# Altium footprint library BGA_Sq_50P.PcbLib: 21 footprints (part 2 of 2)
Each footprint in its own frame and in the unit in brackets; x right, y up, seen from the top. Pads: shape width x height; smd on the part's side, far side on the other; paste and mask are expansions set on the pad; w line width, h text height; cw(c..) or ccw(c..) is an arc to the next point about the centre after c.
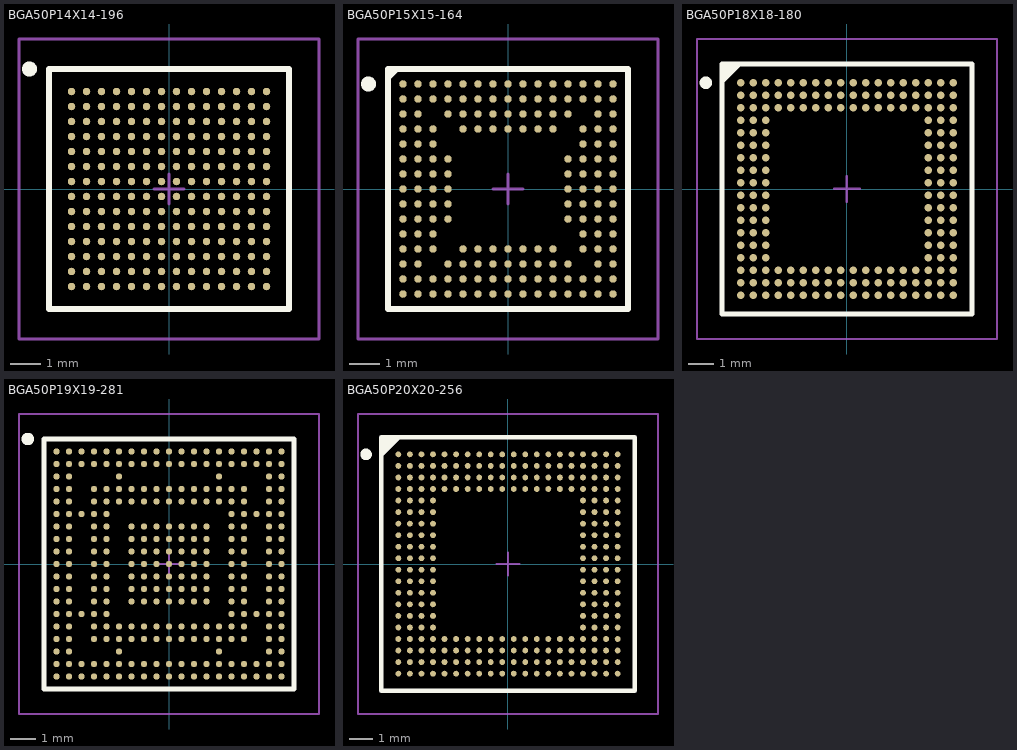
[diagram p1: the footprints below, top view; thin cyan lines are the x and y axes]

## BGA50P14X14-196 [mm] "BGA, 196-Leads, Body 8x8mm, Pitch 0.5mm"
height 1.2
pads (196):
  round 0.25 smd: A1(-3.25,3.25) A2(-2.75,3.25) A3(-2.25,3.25) A4(-1.75,3.25) A5(-1.25,3.25) A6(-0.75,3.25) A7(-0.25,3.25) A8(0.25,3.25) A9(0.75,3.25) A10(1.25,3.25) A11(1.75,3.25) A12(2.25,3.25) A13(2.75,3.25) A14(3.25,3.25) B1(-3.25,2.75) B2(-2.75,2.75) B3(-2.25,2.75) B4(-1.75,2.75) B5(-1.25,2.75) B6(-0.75,2.75) B7(-0.25,2.75) B8(0.25,2.75) B9(0.75,2.75) B10(1.25,2.75) B11(1.75,2.75) B12(2.25,2.75) B13(2.75,2.75) B14(3.25,2.75) C1(-3.25,2.25) C2(-2.75,2.25) C3(-2.25,2.25) C4(-1.75,2.25) C5(-1.25,2.25) C6(-0.75,2.25) C7(-0.25,2.25) C8(0.25,2.25) C9(0.75,2.25) C10(1.25,2.25) C11(1.75,2.25) C12(2.25,2.25) C13(2.75,2.25) C14(3.25,2.25) D1(-3.25,1.75) D2(-2.75,1.75) D3(-2.25,1.75) D4(-1.75,1.75) D5(-1.25,1.75) D6(-0.75,1.75) D7(-0.25,1.75) D8(0.25,1.75) D9(0.75,1.75) D10(1.25,1.75) D11(1.75,1.75) D12(2.25,1.75) D13(2.75,1.75) D14(3.25,1.75) E1(-3.25,1.25) E2(-2.75,1.25) E3(-2.25,1.25) E4(-1.75,1.25) E5(-1.25,1.25) E6(-0.75,1.25) E7(-0.25,1.25) E8(0.25,1.25) E9(0.75,1.25) E10(1.25,1.25) E11(1.75,1.25) E12(2.25,1.25) E13(2.75,1.25) E14(3.25,1.25) F1(-3.25,0.75) F2(-2.75,0.75) F3(-2.25,0.75) F4(-1.75,0.75) F5(-1.25,0.75) F6(-0.75,0.75) F7(-0.25,0.75) F8(0.25,0.75) F9(0.75,0.75) F10(1.25,0.75) F11(1.75,0.75) F12(2.25,0.75) F13(2.75,0.75) F14(3.25,0.75) G1(-3.25,0.25) G2(-2.75,0.25) G3(-2.25,0.25) G4(-1.75,0.25) G5(-1.25,0.25) G6(-0.75,0.25) G7(-0.25,0.25) G8(0.25,0.25) G9(0.75,0.25) G10(1.25,0.25) G11(1.75,0.25) G12(2.25,0.25) G13(2.75,0.25) G14(3.25,0.25) H1(-3.25,-0.25) H2(-2.75,-0.25) H3(-2.25,-0.25) H4(-1.75,-0.25) H5(-1.25,-0.25) H6(-0.75,-0.25) H7(-0.25,-0.25) H8(0.25,-0.25) H9(0.75,-0.25) H10(1.25,-0.25) H11(1.75,-0.25) H12(2.25,-0.25) H13(2.75,-0.25) H14(3.25,-0.25) J1(-3.25,-0.75) J2(-2.75,-0.75) J3(-2.25,-0.75) J4(-1.75,-0.75) J5(-1.25,-0.75) J6(-0.75,-0.75) J7(-0.25,-0.75) J8(0.25,-0.75) J9(0.75,-0.75) J10(1.25,-0.75) J11(1.75,-0.75) J12(2.25,-0.75) J13(2.75,-0.75) J14(3.25,-0.75) K1(-3.25,-1.25) K2(-2.75,-1.25) K3(-2.25,-1.25) K4(-1.75,-1.25) K5(-1.25,-1.25) K6(-0.75,-1.25) K7(-0.25,-1.25) K8(0.25,-1.25) K9(0.75,-1.25) K10(1.25,-1.25) K11(1.75,-1.25) K12(2.25,-1.25) K13(2.75,-1.25) K14(3.25,-1.25) L1(-3.25,-1.75) L2(-2.75,-1.75) L3(-2.25,-1.75) L4(-1.75,-1.75) L5(-1.25,-1.75) L6(-0.75,-1.75) L7(-0.25,-1.75) L8(0.25,-1.75) L9(0.75,-1.75) L10(1.25,-1.75) L11(1.75,-1.75) L12(2.25,-1.75) L13(2.75,-1.75) L14(3.25,-1.75) M1(-3.25,-2.25) M2(-2.75,-2.25) M3(-2.25,-2.25) M4(-1.75,-2.25) M5(-1.25,-2.25) M6(-0.75,-2.25) M7(-0.25,-2.25) M8(0.25,-2.25) M9(0.75,-2.25) M10(1.25,-2.25) M11(1.75,-2.25) M12(2.25,-2.25) M13(2.75,-2.25) M14(3.25,-2.25) N1(-3.25,-2.75) N2(-2.75,-2.75) N3(-2.25,-2.75) N4(-1.75,-2.75) N5(-1.25,-2.75) N6(-0.75,-2.75) N7(-0.25,-2.75) N8(0.25,-2.75) N9(0.75,-2.75) N10(1.25,-2.75) N11(1.75,-2.75) N12(2.25,-2.75) N13(2.75,-2.75) N14(3.25,-2.75) P1(-3.25,-3.25) P2(-2.75,-3.25) P3(-2.25,-3.25) P4(-1.75,-3.25) P5(-1.25,-3.25) P6(-0.75,-3.25) P7(-0.25,-3.25) P8(0.25,-3.25) P9(0.75,-3.25) P10(1.25,-3.25) P11(1.75,-3.25) P12(2.25,-3.25) P13(2.75,-3.25) P14(3.25,-3.25)
Top Overlay:
  circle w0.25: c-4.65,4 r0.125
  lines w0.2: -4,-4 4,-4 4,4 -4,4 -4,-4
Mechanical 13:
  lines w0.1: -4,-4 4,-4 4,4 -4,4 -4,-4
Mechanical 15:
  lines w0.1: -0.5,0 0.5,0 ; 0,-0.5 0,0.5 ; -5,-5 5,-5 5,5 -5,5 -5,-5
3D body: height 1.2, standoff 0.15, extent -4,-4 4,4

## BGA50P15X15-164 [mm] "BGA, 164-Leads, Body 8x8mm, Pitch 0.50mm"
height 1.2
pads (164):
  round 0.25 smd: A1(-3.5,3.5) A2(-3,3.5) A3(-2.5,3.5) A4(-2,3.5) A5(-1.5,3.5) A6(-1,3.5) A7(-0.5,3.5) A8(0,3.5) A9(0.5,3.5) A10(1,3.5) A11(1.5,3.5) A12(2,3.5) A13(2.5,3.5) A14(3,3.5) A15(3.5,3.5) B1(-3.5,3) B2(-3,3) B3(-2.5,3) B4(-2,3) B5(-1.5,3) B6(-1,3) B7(-0.5,3) B8(0,3) B9(0.5,3) B10(1,3) B11(1.5,3) B12(2,3) B13(2.5,3) B14(3,3) B15(3.5,3) C1(-3.5,2.5) C2(-3,2.5) C4(-2,2.5) C5(-1.5,2.5) C6(-1,2.5) C7(-0.5,2.5) C8(0,2.5) C9(0.5,2.5) C10(1,2.5) C11(1.5,2.5) C12(2,2.5) C14(3,2.5) C15(3.5,2.5) D1(-3.5,2) D2(-3,2) D3(-2.5,2) D5(-1.5,2) D6(-1,2) D7(-0.5,2) D8(0,2) D9(0.5,2) D10(1,2) D11(1.5,2) D13(2.5,2) D14(3,2) D15(3.5,2) E1(-3.5,1.5) E2(-3,1.5) E3(-2.5,1.5) E13(2.5,1.5) E14(3,1.5) E15(3.5,1.5) F1(-3.5,1) F2(-3,1) F3(-2.5,1) F4(-2,1) F12(2,1) F13(2.5,1) F14(3,1) F15(3.5,1) G1(-3.5,0.5) G2(-3,0.5) G3(-2.5,0.5) G4(-2,0.5) G12(2,0.5) G13(2.5,0.5) G14(3,0.5) G15(3.5,0.5) H1(-3.5,0) H2(-3,0) H3(-2.5,0) H4(-2,0) H12(2,0) H13(2.5,0) H14(3,0) H15(3.5,0) J1(-3.5,-0.5) J2(-3,-0.5) J3(-2.5,-0.5) J4(-2,-0.5) J12(2,-0.5) J13(2.5,-0.5) J14(3,-0.5) J15(3.5,-0.5) K1(-3.5,-1) K2(-3,-1) K3(-2.5,-1) K4(-2,-1) K12(2,-1) K13(2.5,-1) K14(3,-1) K15(3.5,-1) L1(-3.5,-1.5) L2(-3,-1.5) L3(-2.5,-1.5) L13(2.5,-1.5) L14(3,-1.5) L15(3.5,-1.5) M1(-3.5,-2) M2(-3,-2) M3(-2.5,-2) M5(-1.5,-2) M6(-1,-2) M7(-0.5,-2) M8(0,-2) M9(0.5,-2) M10(1,-2) M11(1.5,-2) M13(2.5,-2) M14(3,-2) M15(3.5,-2) N1(-3.5,-2.5) N2(-3,-2.5) N4(-2,-2.5) N5(-1.5,-2.5) N6(-1,-2.5) N7(-0.5,-2.5) N8(0,-2.5) N9(0.5,-2.5) N10(1,-2.5) N11(1.5,-2.5) N12(2,-2.5) N14(3,-2.5) N15(3.5,-2.5) P1(-3.5,-3) P2(-3,-3) P3(-2.5,-3) P4(-2,-3) P5(-1.5,-3) P6(-1,-3) P7(-0.5,-3) P8(0,-3) P9(0.5,-3) P10(1,-3) P11(1.5,-3) P12(2,-3) P13(2.5,-3) P14(3,-3) P15(3.5,-3) R1(-3.5,-3.5) R2(-3,-3.5) R3(-2.5,-3.5) R4(-2,-3.5) R5(-1.5,-3.5) R6(-1,-3.5) R7(-0.5,-3.5) R8(0,-3.5) R9(0.5,-3.5) R10(1,-3.5) R11(1.5,-3.5) R12(2,-3.5) R13(2.5,-3.5) R14(3,-3.5) R15(3.5,-3.5)
Top Overlay:
  circle w0.25: c-4.65,3.5 r0.125
  region: -3.707,4 -4,3.707 -4,4
  lines w0.2: -4,3.707 -3.707,4 ; -4,-4 -4,4 4,4 4,-4 -4,-4
Mechanical 13:
  lines w0.1: -4,-4 -4,4 4,4 4,-4 -4,-4
Mechanical 15:
  lines w0.1: -0.5,0 0.5,0 ; 0,-0.5 0,0.5 ; -5,-5 -5,5 5,5 5,-5 -5,-5
3D body: height 1.2, standoff 0.15, extent -4,-4 4,4

## BGA50P18X18-180 [mm] "BGA, 180-Leads, Body 10x10mm, Pitch 0.5mm"
height 1.11
pads (180):
  round 0.3 smd: A1(-4.25,4.25) A2(-3.75,4.25) A3(-3.25,4.25) A4(-2.75,4.25) A5(-2.25,4.25) A6(-1.75,4.25) A7(-1.25,4.25) A8(-0.75,4.25) A9(-0.25,4.25) A10(0.25,4.25) A11(0.75,4.25) A12(1.25,4.25) A13(1.75,4.25) A14(2.25,4.25) A15(2.75,4.25) A16(3.25,4.25) A17(3.75,4.25) A18(4.25,4.25) B1(-4.25,3.75) B2(-3.75,3.75) B3(-3.25,3.75) B4(-2.75,3.75) B5(-2.25,3.75) B6(-1.75,3.75) B7(-1.25,3.75) B8(-0.75,3.75) B9(-0.25,3.75) B10(0.25,3.75) B11(0.75,3.75) B12(1.25,3.75) B13(1.75,3.75) B14(2.25,3.75) B15(2.75,3.75) B16(3.25,3.75) B17(3.75,3.75) B18(4.25,3.75) C1(-4.25,3.25) C2(-3.75,3.25) C3(-3.25,3.25) C4(-2.75,3.25) C5(-2.25,3.25) C6(-1.75,3.25) C7(-1.25,3.25) C8(-0.75,3.25) C9(-0.25,3.25) C10(0.25,3.25) C11(0.75,3.25) C12(1.25,3.25) C13(1.75,3.25) C14(2.25,3.25) C15(2.75,3.25) C16(3.25,3.25) C17(3.75,3.25) C18(4.25,3.25) D1(-4.25,2.75) D2(-3.75,2.75) D3(-3.25,2.75) D16(3.25,2.75) D17(3.75,2.75) D18(4.25,2.75) E1(-4.25,2.25) E2(-3.75,2.25) E3(-3.25,2.25) E16(3.25,2.25) E17(3.75,2.25) E18(4.25,2.25) F1(-4.25,1.75) F2(-3.75,1.75) F3(-3.25,1.75) F16(3.25,1.75) F17(3.75,1.75) F18(4.25,1.75) G1(-4.25,1.25) G2(-3.75,1.25) G3(-3.25,1.25) G16(3.25,1.25) G17(3.75,1.25) G18(4.25,1.25) H1(-4.25,0.75) H2(-3.75,0.75) H3(-3.25,0.75) H16(3.25,0.75) H17(3.75,0.75) H18(4.25,0.75) J1(-4.25,0.25) J2(-3.75,0.25) J3(-3.25,0.25) J16(3.25,0.25) J17(3.75,0.25) J18(4.25,0.25) K1(-4.25,-0.25) K2(-3.75,-0.25) K3(-3.25,-0.25) K16(3.25,-0.25) K17(3.75,-0.25) K18(4.25,-0.25) L1(-4.25,-0.75) L2(-3.75,-0.75) L3(-3.25,-0.75) L16(3.25,-0.75) L17(3.75,-0.75) L18(4.25,-0.75) M1(-4.25,-1.25) M2(-3.75,-1.25) M3(-3.25,-1.25) M16(3.25,-1.25) M17(3.75,-1.25) M18(4.25,-1.25) N1(-4.25,-1.75) N2(-3.75,-1.75) N3(-3.25,-1.75) N16(3.25,-1.75) N17(3.75,-1.75) N18(4.25,-1.75) P1(-4.25,-2.25) P2(-3.75,-2.25) P3(-3.25,-2.25) P16(3.25,-2.25) P17(3.75,-2.25) P18(4.25,-2.25) R1(-4.25,-2.75) R2(-3.75,-2.75) R3(-3.25,-2.75) R16(3.25,-2.75) R17(3.75,-2.75) R18(4.25,-2.75) T1(-4.25,-3.25) T2(-3.75,-3.25) T3(-3.25,-3.25) T4(-2.75,-3.25) T5(-2.25,-3.25) T6(-1.75,-3.25) T7(-1.25,-3.25) T8(-0.75,-3.25) T9(-0.25,-3.25) T10(0.25,-3.25) T11(0.75,-3.25) T12(1.25,-3.25) T13(1.75,-3.25) T14(2.25,-3.25) T15(2.75,-3.25) T16(3.25,-3.25) T17(3.75,-3.25) T18(4.25,-3.25) U1(-4.25,-3.75) U2(-3.75,-3.75) U3(-3.25,-3.75) U4(-2.75,-3.75) U5(-2.25,-3.75) U6(-1.75,-3.75) U7(-1.25,-3.75) U8(-0.75,-3.75) U9(-0.25,-3.75) U10(0.25,-3.75) U11(0.75,-3.75) U12(1.25,-3.75) U13(1.75,-3.75) U14(2.25,-3.75) U15(2.75,-3.75) U16(3.25,-3.75) U17(3.75,-3.75) U18(4.25,-3.75) V1(-4.25,-4.25) V2(-3.75,-4.25) V3(-3.25,-4.25) V4(-2.75,-4.25) V5(-2.25,-4.25) V6(-1.75,-4.25) V7(-1.25,-4.25) V8(-0.75,-4.25) V9(-0.25,-4.25) V10(0.25,-4.25) V11(0.75,-4.25) V12(1.25,-4.25) V13(1.75,-4.25) V14(2.25,-4.25) V15(2.75,-4.25) V16(3.25,-4.25) V17(3.75,-4.25) V18(4.25,-4.25)
Top Overlay:
  circle w0.25: c-5.65,4.25 r0.125
  region: -4.306,5 -5,4.306 -5,5
  lines w0.2: -5,4.306 -4.306,5 ; -5,-5 -5,5 5,5 5,-5 -5,-5
Mechanical 13:
  lines w0.1: -5,-5 -5,5 5,5 5,-5 -5,-5
Mechanical 15:
  lines w0.1: -0.5,0 0.5,0 ; 0,-0.5 0,0.5 ; -6,-6 -6,6 6,6 6,-6 -6,-6
3D body: height 1.11, standoff 0.19, extent -5,-5 5,5

## BGA50P19X19-281 [mm] "BGA, 281-Leads, Body 10x10mm, Pitch 0.5mm"
height 1.05
pads (281):
  round 0.25 smd: A1(-4.5,4.5) A2(-4,4.5) A3(-3.5,4.5) A4(-3,4.5) A5(-2.5,4.5) A6(-2,4.5) A7(-1.5,4.5) A8(-1,4.5) A9(-0.5,4.5) A10(0,4.5) A11(0.5,4.5) A12(1,4.5) A13(1.5,4.5) A14(2,4.5) A15(2.5,4.5) A16(3,4.5) A17(3.5,4.5) A18(4,4.5) A19(4.5,4.5) B1(-4.5,4) B2(-4,4) B3(-3.5,4) B4(-3,4) B5(-2.5,4) B6(-2,4) B7(-1.5,4) B8(-1,4) B9(-0.5,4) B10(0,4) B11(0.5,4) B12(1,4) B13(1.5,4) B14(2,4) B15(2.5,4) B16(3,4) B17(3.5,4) B18(4,4) B19(4.5,4) C1(-4.5,3.5) C2(-4,3.5) C6(-2,3.5) C14(2,3.5) C18(4,3.5) C19(4.5,3.5) D1(-4.5,3) D2(-4,3) D4(-3,3) D5(-2.5,3) D6(-2,3) D7(-1.5,3) D8(-1,3) D9(-0.5,3) D10(0,3) D11(0.5,3) D12(1,3) D13(1.5,3) D14(2,3) D15(2.5,3) D16(3,3) D18(4,3) D19(4.5,3) E1(-4.5,2.5) E2(-4,2.5) E4(-3,2.5) E5(-2.5,2.5) E6(-2,2.5) E7(-1.5,2.5) E8(-1,2.5) E9(-0.5,2.5) E10(0,2.5) E11(0.5,2.5) E12(1,2.5) E13(1.5,2.5) E14(2,2.5) E15(2.5,2.5) E16(3,2.5) E18(4,2.5) E19(4.5,2.5) F1(-4.5,2) F2(-4,2) F3(-3.5,2) F4(-3,2) F5(-2.5,2) F15(2.5,2) F16(3,2) F17(3.5,2) F18(4,2) F19(4.5,2) G1(-4.5,1.5) G2(-4,1.5) G4(-3,1.5) G5(-2.5,1.5) G7(-1.5,1.5) G8(-1,1.5) G9(-0.5,1.5) G10(0,1.5) G11(0.5,1.5) G12(1,1.5) G13(1.5,1.5) G15(2.5,1.5) G16(3,1.5) G18(4,1.5) G19(4.5,1.5) H1(-4.5,1) H2(-4,1) H4(-3,1) H5(-2.5,1) H7(-1.5,1) H8(-1,1) H9(-0.5,1) H10(0,1) H11(0.5,1) H12(1,1) H13(1.5,1) H15(2.5,1) H16(3,1) H18(4,1) H19(4.5,1) J1(-4.5,0.5) J2(-4,0.5) J4(-3,0.5) J5(-2.5,0.5) J7(-1.5,0.5) J8(-1,0.5) J9(-0.5,0.5) J10(0,0.5) J11(0.5,0.5) J12(1,0.5) J13(1.5,0.5) J15(2.5,0.5) J16(3,0.5) J18(4,0.5) J19(4.5,0.5) K1(-4.5,0) K2(-4,0) K4(-3,0) K5(-2.5,0) K7(-1.5,0) K8(-1,0) K9(-0.5,0) K10(0,0) K11(0.5,0) K12(1,0) K13(1.5,0) K15(2.5,0) K16(3,0) K18(4,0) K19(4.5,0) L1(-4.5,-0.5) L2(-4,-0.5) L4(-3,-0.5) L5(-2.5,-0.5) L7(-1.5,-0.5) L8(-1,-0.5) L9(-0.5,-0.5) L10(0,-0.5) L11(0.5,-0.5) L12(1,-0.5) L13(1.5,-0.5) L15(2.5,-0.5) L16(3,-0.5) L18(4,-0.5) L19(4.5,-0.5) M1(-4.5,-1) M2(-4,-1) M4(-3,-1) M5(-2.5,-1) M7(-1.5,-1) M8(-1,-1) M9(-0.5,-1) M10(0,-1) M11(0.5,-1) M12(1,-1) M13(1.5,-1) M15(2.5,-1) M16(3,-1) M18(4,-1) M19(4.5,-1) N1(-4.5,-1.5) N2(-4,-1.5) N4(-3,-1.5) N5(-2.5,-1.5) N7(-1.5,-1.5) N8(-1,-1.5) N9(-0.5,-1.5) N10(0,-1.5) N11(0.5,-1.5) N12(1,-1.5) N13(1.5,-1.5) N15(2.5,-1.5) N16(3,-1.5) N18(4,-1.5) N19(4.5,-1.5) P1(-4.5,-2) P2(-4,-2) P3(-3.5,-2) P4(-3,-2) P5(-2.5,-2) P15(2.5,-2) P16(3,-2) P17(3.5,-2) P18(4,-2) P19(4.5,-2) R1(-4.5,-2.5) R2(-4,-2.5) R4(-3,-2.5) R5(-2.5,-2.5) R6(-2,-2.5) R7(-1.5,-2.5) R8(-1,-2.5) R9(-0.5,-2.5) R10(0,-2.5) R11(0.5,-2.5) R12(1,-2.5) R13(1.5,-2.5) R14(2,-2.5) R15(2.5,-2.5) R16(3,-2.5) R18(4,-2.5) R19(4.5,-2.5) T1(-4.5,-3) T2(-4,-3) T4(-3,-3) T5(-2.5,-3) T6(-2,-3) T7(-1.5,-3) T8(-1,-3) T9(-0.5,-3) T10(0,-3) T11(0.5,-3) T12(1,-3) T13(1.5,-3) T14(2,-3) T15(2.5,-3) T16(3,-3) T18(4,-3) T19(4.5,-3) U1(-4.5,-3.5) U2(-4,-3.5) U6(-2,-3.5) U14(2,-3.5) U18(4,-3.5) U19(4.5,-3.5) V1(-4.5,-4) V2(-4,-4) V3(-3.5,-4) V4(-3,-4) V5(-2.5,-4) V6(-2,-4) V7(-1.5,-4) V8(-1,-4) V9(-0.5,-4) V10(0,-4) V11(0.5,-4) V12(1,-4) V13(1.5,-4) V14(2,-4) V15(2.5,-4) V16(3,-4) V17(3.5,-4) V18(4,-4) V19(4.5,-4) W1(-4.5,-4.5) W2(-4,-4.5) W3(-3.5,-4.5) W4(-3,-4.5) W5(-2.5,-4.5) W6(-2,-4.5) W7(-1.5,-4.5) W8(-1,-4.5) W9(-0.5,-4.5) W10(0,-4.5) W11(0.5,-4.5) W12(1,-4.5) W13(1.5,-4.5) W14(2,-4.5) W15(2.5,-4.5) W16(3,-4.5) W17(3.5,-4.5) W18(4,-4.5) W19(4.5,-4.5)
Top Overlay:
  circle w0.25: c-5.65,5 r0.125
  lines w0.2: -5,-5 5,-5 5,5 -5,5 -5,-5
Mechanical 13:
  lines w0.1: -5,-5 5,-5 5,5 -5,5 -5,-5
Mechanical 15:
  lines w0.1: -0.5,0 0.5,0 ; 0,-0.5 0,0.5 ; -6,-6 6,-6 6,6 -6,6 -6,-6
3D body: height 1.05, standoff 0.18, extent -5,-5 5,5

## BGA50P20X20-256 [mm] "BGA, 256-Leads, Body 11x11mm, Pitch 0.5mm"
height 1.2
pads (256):
  round 0.25 smd: A1(-4.75,4.75) A2(-4.25,4.75) A3(-3.75,4.75) A4(-3.25,4.75) A5(-2.75,4.75) A6(-2.25,4.75) A7(-1.75,4.75) A8(-1.25,4.75) A9(-0.75,4.75) A10(-0.25,4.75) A11(0.25,4.75) A12(0.75,4.75) A13(1.25,4.75) A14(1.75,4.75) A15(2.25,4.75) A16(2.75,4.75) A17(3.25,4.75) A18(3.75,4.75) A19(4.25,4.75) A20(4.75,4.75) B1(-4.75,4.25) B2(-4.25,4.25) B3(-3.75,4.25) B4(-3.25,4.25) B5(-2.75,4.25) B6(-2.25,4.25) B7(-1.75,4.25) B8(-1.25,4.25) B9(-0.75,4.25) B10(-0.25,4.25) B11(0.25,4.25) B12(0.75,4.25) B13(1.25,4.25) B14(1.75,4.25) B15(2.25,4.25) B16(2.75,4.25) B17(3.25,4.25) B18(3.75,4.25) B19(4.25,4.25) B20(4.75,4.25) C1(-4.75,3.75) C2(-4.25,3.75) C3(-3.75,3.75) C4(-3.25,3.75) C5(-2.75,3.75) C6(-2.25,3.75) C7(-1.75,3.75) C8(-1.25,3.75) C9(-0.75,3.75) C10(-0.25,3.75) C11(0.25,3.75) C12(0.75,3.75) C13(1.25,3.75) C14(1.75,3.75) C15(2.25,3.75) C16(2.75,3.75) C17(3.25,3.75) C18(3.75,3.75) C19(4.25,3.75) C20(4.75,3.75) D1(-4.75,3.25) D2(-4.25,3.25) D3(-3.75,3.25) D4(-3.25,3.25) D5(-2.75,3.25) D6(-2.25,3.25) D7(-1.75,3.25) D8(-1.25,3.25) D9(-0.75,3.25) D10(-0.25,3.25) D11(0.25,3.25) D12(0.75,3.25) D13(1.25,3.25) D14(1.75,3.25) D15(2.25,3.25) D16(2.75,3.25) D17(3.25,3.25) D18(3.75,3.25) D19(4.25,3.25) D20(4.75,3.25) E1(-4.75,2.75) E2(-4.25,2.75) E3(-3.75,2.75) E4(-3.25,2.75) E17(3.25,2.75) E18(3.75,2.75) E19(4.25,2.75) E20(4.75,2.75) F1(-4.75,2.25) F2(-4.25,2.25) F3(-3.75,2.25) F4(-3.25,2.25) F17(3.25,2.25) F18(3.75,2.25) F19(4.25,2.25) F20(4.75,2.25) G1(-4.75,1.75) G2(-4.25,1.75) G3(-3.75,1.75) G4(-3.25,1.75) G17(3.25,1.75) G18(3.75,1.75) G19(4.25,1.75) G20(4.75,1.75) H1(-4.75,1.25) H2(-4.25,1.25) H3(-3.75,1.25) H4(-3.25,1.25) H17(3.25,1.25) H18(3.75,1.25) H19(4.25,1.25) H20(4.75,1.25) J1(-4.75,0.75) J2(-4.25,0.75) J3(-3.75,0.75) J4(-3.25,0.75) J17(3.25,0.75) J18(3.75,0.75) J19(4.25,0.75) J20(4.75,0.75) K1(-4.75,0.25) K2(-4.25,0.25) K3(-3.75,0.25) K4(-3.25,0.25) K17(3.25,0.25) K18(3.75,0.25) K19(4.25,0.25) K20(4.75,0.25) L1(-4.75,-0.25) L2(-4.25,-0.25) L3(-3.75,-0.25) L4(-3.25,-0.25) L17(3.25,-0.25) L18(3.75,-0.25) L19(4.25,-0.25) L20(4.75,-0.25) M1(-4.75,-0.75) M2(-4.25,-0.75) M3(-3.75,-0.75) M4(-3.25,-0.75) M17(3.25,-0.75) M18(3.75,-0.75) M19(4.25,-0.75) M20(4.75,-0.75) N1(-4.75,-1.25) N2(-4.25,-1.25) N3(-3.75,-1.25) N4(-3.25,-1.25) N17(3.25,-1.25) N18(3.75,-1.25) N19(4.25,-1.25) N20(4.75,-1.25) P1(-4.75,-1.75) P2(-4.25,-1.75) P3(-3.75,-1.75) P4(-3.25,-1.75) P17(3.25,-1.75) P18(3.75,-1.75) P19(4.25,-1.75) P20(4.75,-1.75) R1(-4.75,-2.25) R2(-4.25,-2.25) R3(-3.75,-2.25) R4(-3.25,-2.25) R17(3.25,-2.25) R18(3.75,-2.25) R19(4.25,-2.25) R20(4.75,-2.25) T1(-4.75,-2.75) T2(-4.25,-2.75) T3(-3.75,-2.75) T4(-3.25,-2.75) T17(3.25,-2.75) T18(3.75,-2.75) T19(4.25,-2.75) T20(4.75,-2.75) U1(-4.75,-3.25) U2(-4.25,-3.25) U3(-3.75,-3.25) U4(-3.25,-3.25) U5(-2.75,-3.25) U6(-2.25,-3.25) U7(-1.75,-3.25) U8(-1.25,-3.25) U9(-0.75,-3.25) U10(-0.25,-3.25) U11(0.25,-3.25) U12(0.75,-3.25) U13(1.25,-3.25) U14(1.75,-3.25) U15(2.25,-3.25) U16(2.75,-3.25) U17(3.25,-3.25) U18(3.75,-3.25) U19(4.25,-3.25) U20(4.75,-3.25) V1(-4.75,-3.75) V2(-4.25,-3.75) V3(-3.75,-3.75) V4(-3.25,-3.75) V5(-2.75,-3.75) V6(-2.25,-3.75) V7(-1.75,-3.75) V8(-1.25,-3.75) V9(-0.75,-3.75) V10(-0.25,-3.75) V11(0.25,-3.75) V12(0.75,-3.75) V13(1.25,-3.75) V14(1.75,-3.75) V15(2.25,-3.75) V16(2.75,-3.75) V17(3.25,-3.75) V18(3.75,-3.75) V19(4.25,-3.75) V20(4.75,-3.75) W1(-4.75,-4.25) W2(-4.25,-4.25) W3(-3.75,-4.25) W4(-3.25,-4.25) W5(-2.75,-4.25) W6(-2.25,-4.25) W7(-1.75,-4.25) W8(-1.25,-4.25) W9(-0.75,-4.25) W10(-0.25,-4.25) W11(0.25,-4.25) W12(0.75,-4.25) W13(1.25,-4.25) W14(1.75,-4.25) W15(2.25,-4.25) W16(2.75,-4.25) W17(3.25,-4.25) W18(3.75,-4.25) W19(4.25,-4.25) W20(4.75,-4.25) Y1(-4.75,-4.75) Y2(-4.25,-4.75) Y3(-3.75,-4.75) Y4(-3.25,-4.75) Y5(-2.75,-4.75) Y6(-2.25,-4.75) Y7(-1.75,-4.75) Y8(-1.25,-4.75) Y9(-0.75,-4.75) Y10(-0.25,-4.75) Y11(0.25,-4.75) Y12(0.75,-4.75) Y13(1.25,-4.75) Y14(1.75,-4.75) Y15(2.25,-4.75) Y16(2.75,-4.75) Y17(3.25,-4.75) Y18(3.75,-4.75) Y19(4.25,-4.75) Y20(4.75,-4.75)
Top Overlay:
  circle w0.25: c-6.15,4.75 r0.125
  region: -4.742,5.5 -5.5,4.742 -5.5,5.5
  lines w0.2: -5.5,4.742 -4.742,5.5 ; -5.5,-5.5 -5.5,5.5 5.5,5.5 5.5,-5.5 -5.5,-5.5
Mechanical 13:
  lines w0.1: -5.5,-5.5 -5.5,5.5 5.5,5.5 5.5,-5.5 -5.5,-5.5
Mechanical 15:
  lines w0.1: -0.5,0 0.5,0 ; 0,-0.5 0,0.5 ; -6.5,-6.5 -6.5,6.5 6.5,6.5 6.5,-6.5 -6.5,-6.5
3D body: height 0, standoff 0, extent -5.499,-5.499 5.499,5.499